# Altium schematic symbol library MPW10XX.SchLib: 1 symbol
Pins are listed as number, name and electrical type; pins without a type are passive.

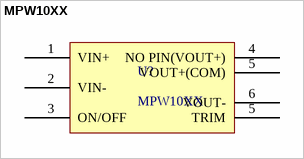
[diagram p0: symbol MPW10XX]

## MPW10XX
designator U?
pins: 1 VIN+, 2 VIN-, 3 ON/OFF, 4 NO PIN(VOUT+), 5 TRIM, 5 VOUT+(COM), 6 VOUT-